# EAGLE library part SN74CB3Q3245 (library graftel-internal-ic)
https://www.digikey.com/product-detail/en/texas-instruments/SN74CB3Q3245PWR/296-19130-1-ND/864361
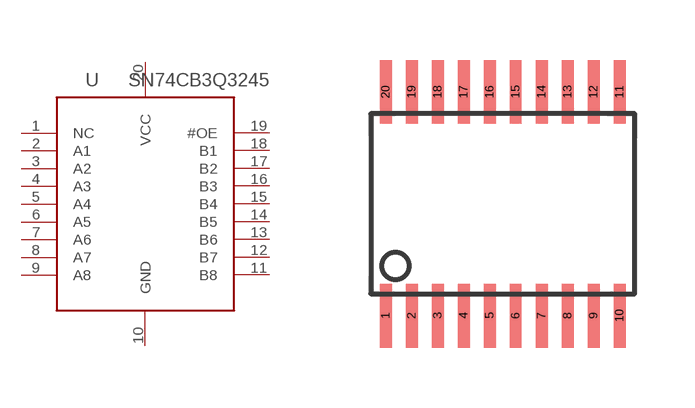
[diagram p39: symbol with the pads of TSSOP20; footprint TSSOP20]

Designator prefix U

## SN74CB3Q3245  [TSSOP20]
1  NC
2  A1
3  A2
4  A3
5  A4
6  A5
7  A6
8  A7
9  A8
10  GND
11  B8
12  B7
13  B6
14  B5
15  B4
16  B3
17  B2
18  B1
19  #OE
20  VCC

## Footprint TSSOP20 (pad centres in mm)
smd 0.3 x 1.6: 1 -2.925,-2.8; 2 -2.275,-2.8; 3 -1.625,-2.8; 4 -0.975,-2.8; 5 -0.325,-2.8; 6 0.325,-2.8; 7 0.975,-2.8; 8 1.625,-2.8; 9 2.275,-2.8; 10 2.925,-2.8; 11 2.925,2.8; 12 2.275,2.8; 13 1.625,2.8; 14 0.975,2.8; 15 0.325,2.8; 16 -0.325,2.8; 17 -0.975,2.8; 18 -1.625,2.8; 19 -2.275,2.8; 20 -2.925,2.8